# Altium schematic symbol library YaSIf.SCHLIB: 30 symbols
Pins are listed as number, name and electrical type; pins without a type are passive.

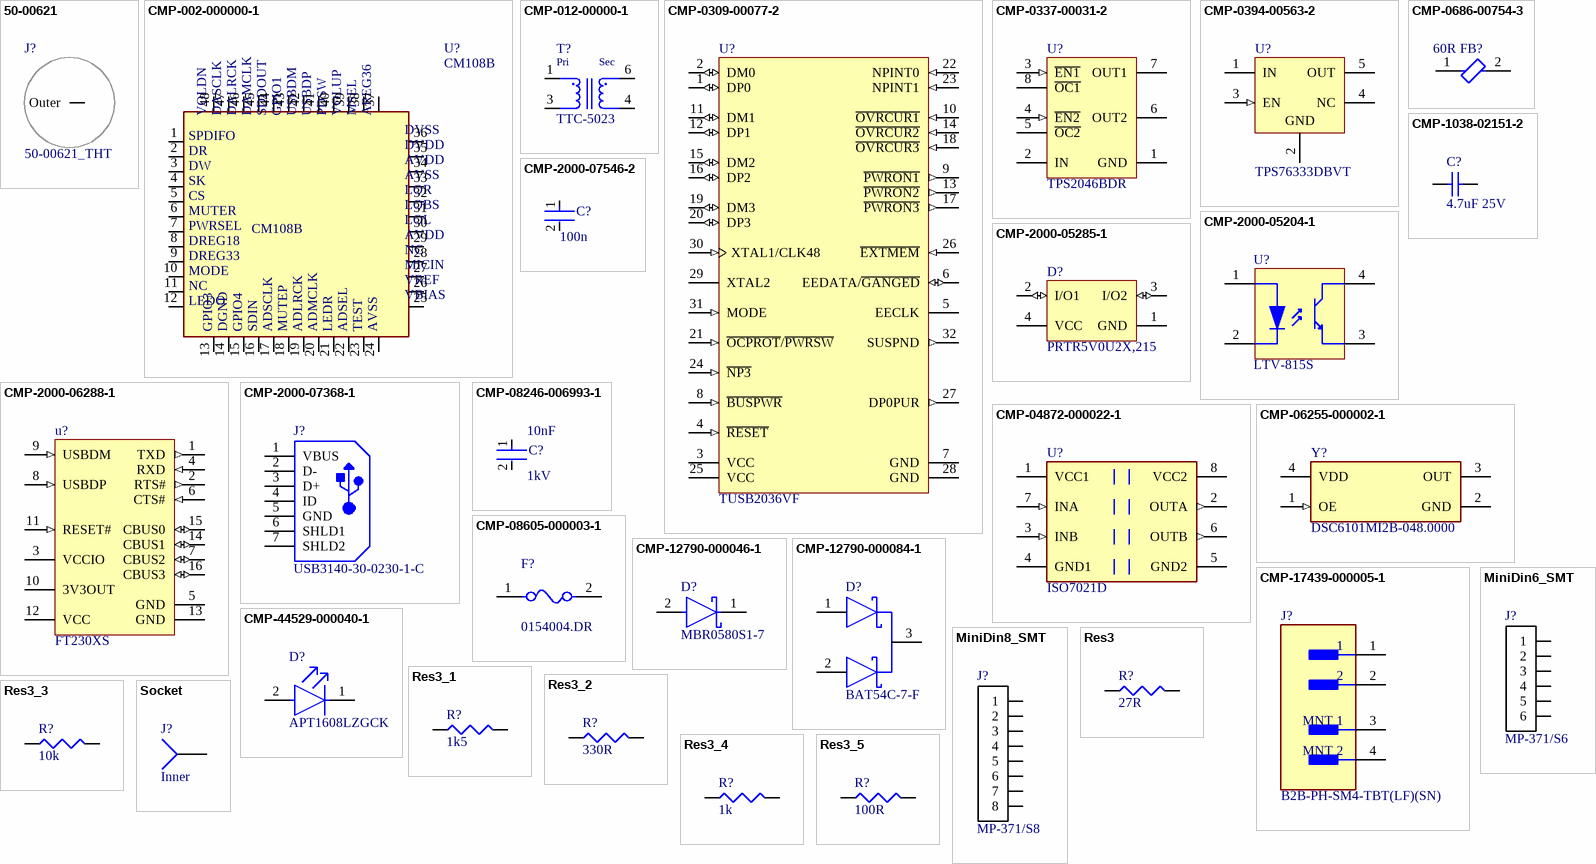
[diagram p0: symbols 50-00621 to Socket]

## 50-00621
designator J?, comment 50-00621_THT
Tensility Connector, dc plug, 4.0x1.7x21.3 mm, dual solder tabs, spring contacts, nickel plated, 105 °C
footprint 50-00621_THT (Connector, dc plug, 4.0x1.7x21.3 mm, mounted as THT)
pins: 1 Outer

## CMP-002-000000-1
designator U?, comment CM108B
USB Audio Codec improved on CM; MF: Cmedia; Check_prices: https://www.snapeda.com/parts/CM108B/Cmedia/view-part/424266/?ref=eda; Pin Count: 48; Source: CM108B.SchLib; Design Item ID: CM108B; Package: None; Price: None; Value: *; SnapEDA_Link: https://www.snapeda.com/parts/CM108B/Cmedia/view-part/424266/?ref=snap; MP: CM108B; Availability: Unavailable; Component Type: Standard; Component Type: Interface
footprint TQFP48
pins: 1 (io), 2 (io), 3 (io), 4 (io), 5 (io), 6 (io), 7 (io), 8 (io), 9 (io), 10 (io), 11 (io), 12 (io), 13 (io), 14 (io), 15 (io), 16 (io), 17 (io), 18 (io), 19 (io), 20 (io), 21 (io), 22 (io), 23 (io), 24 (io), 25 (io), 26 (io), 27 (io), 28 (io), 29 (io), 30 (io), 31 (io), 32 (io), 33 (io), 34 (io), 35 (io), 36 (io), 37 (io), 38 (io), 39 (io), 40 (io), 41 (io), 42 (io), 43 (io), 44 (io), 45 (io), 46 (io), 47 (io), 48 (io)
text: VOLDN; DASCLK; DALRCK; DAMCLK; SDDOUT; GPIO1; USBDM; USBDP; PDSW; VOLUP; MSEL; AREG36; SPDIFO; DVSS; DR; DVDD; DW; AVDD; SK; AVSS; CS; LOR; MUTER; LOBS; PWRSEL; LOL; DREG18; DREG33; NC; MODE; MICIN; VREF; LEDO; VBIAS; GPIO3; DGND; GPIO4; SDIN; ADSCLK; MUTEP; ADLRCK; ADMCLK; LEDR; ADSEL; TEST

## CMP-012-00000-1
designator T?, comment TTC-5023
600 Impedance Primary Ohms 600 Impedance Secondary Ohms 1:1 Audio Transformer 200Hz ~ 4kHz Surface Mount; MF: Tamura; MP: TTC-5023; SnapEDA_Link: https://www.snapeda.com/parts/TTC-5023/Tamura/view-part/2878352/?ref=snap; Source: SnapEDAsch.SchLib; Design Item ID: TTC-5023; Pins: 4; Availability: Unavailable; Component Type: Standard; Price: None; Case/Package: Tamura; Value: *; Component Type: Transformers
footprint TRANSFORMER_TTC-5023
pins: 1, 3, 4, 6
text: Pri; Sec

## CMP-0309-00077-2
designator U?, comment TUSB2036VF
2 / 3-Port Hub for USB with Optional Serial EEPROM Interface, 3.3V, 0 to 70 degC, 32-Pin LQFP (VF), Green (RoHS & no Sb/Br); Manufacturer: Texas Instruments; USB Speed: Full; Supply Voltage(s)(V): 3.3; SubFamily: USB Hub Controller; USB Full Speed: True; ComponentLink2Description: Package Specification; Eco-Plan: Green (RoHS & no Sb/Br); ComponentLink1Description: Datasheet; ComponentLink2URL: http://www.ti.com/litv/pdf/mtqf002b; PackageVersion: revD, Apr-2000; PartNumber: TUSB2036VF; PackageReference: VF0032A; ComponentLink1URL: http://www.ti.com/general/docs/lit/getliterature.tsp?genericPartNumber=TUSB2036&fileType=pdf; Mounting Technology: Surface Mount; Integrated MCU Architecture: N/A; PackageDescription: 32-Pin Plastic Quad Flatpack, 7 x 7 mm Body, 0.8 mm Pitch; DatasheetVersion: SLLS372E; Manufacturer Part Number: TUSB2036VF
footprint VF0032A_N (QFP, 32-Leads, Body 7x7mm, Pitch 0.8mm, IPC Medium Density)
footprint VF0032A_L (QFP, 32-Leads, Body 7x7mm, Pitch 0.8mm, IPC High Density)
footprint VF0032A_M (QFP, 32-Leads, Body 7x7mm, Pitch 0.8mm, IPC Low Density)
pins: 1 DP0 (io) "Root port USB differential data plus. DP0 paired with DM0 constitutes the upstream USB port.", 2 DM0 (io) "Root port USB differential data minus. DM0 paired with DP0 constitutes the upstream USB port.", 3 VCC (power) "3.3-V supply voltage", 4 ~{RESET} (in) "R\E\S\E\T\ is an active low TTL input with hysteresis and must be asserted at power up. When R\E\S\E\T\ is asserted, all logic is initialized. Generally, a reset with a pulse width between 100 us and 1 ms is recommended (See Datasheet)", 5 EECLK (hiz) "EEPROM serial clock. When EXTMEM is high, the EEPROM interface is disabled. The EECLK terminal is disabled and must be left floating (unconnected). When EXTMEM is low, EECLK acts as a 3-state serial clock output to the (See Datasheet)", 6 EEDATA/~{GANGED} (io) "EEPROM serial data/power-management mode indicator. When E\X\T\M\E\M\ is high, EEDATA/G\A\N\G\E\D\ selects between ganged or per-port power overcurrent detection for the downstream ports. When E\X\T\M\E\M\ is (See Datasheet)", 7 GND (power) "GND terminals must be tied to ground for proper operation", 8 ~{BUSPWR} (in) "Power source indicator. B\U\S\P\W\R\ is an active-low input that indicates whether the downstream ports source their power from the USB cable or a local power supply. For the bus-power mode, this terminal must be pulled low, (See Datasheet)", 9 ~{PWRON1} (out) "Power-on/-off control signals. P\W\R\O\N\1\-P\W\R\O\N\3\ are active low, push-pull outputs that enables the external power switch device. Push-pull outputs eliminate the pullup resistors which open-drain outputs require. (See Datasheet)", 10 ~{OVRCUR1} (in) "Overcurrent input. O\V\R\C\U\R\1\ - O\V\R\C\U\R\3\ are active low. For per-port overcurrent detection, one overcurrent input is available for each of the three downstream ports. In the ganged mode, any O\V\R\C\U\R\ input may (See Datasheet)", 11 DM1 (io) "USB differential data minus. DM1-DM3 paired with DP1-DP3 support up to four downstream USB ports.", 12 DP1 (io) "USB differential data plus. DP1-DP3 paired with DM1-DM3 support up to four downstream USB ports.", 13 ~{PWRON2} (out) "Power-on/-off control signals. P\W\R\O\N\1\-P\W\R\O\N\3\ are active low, push-pull outputs that enables the external power switch device. Push-pull outputs eliminate the pullup resistors which open-drain outputs require. (See Datasheet)", 14 ~{OVRCUR2} (in) "Overcurrent input. O\V\R\C\U\R\1\ - O\V\R\C\U\R\3\ are active low. For per-port overcurrent detection, one overcurrent input is available for each of the three downstream ports. In the ganged mode, any O\V\R\C\U\R\ input may (See Datasheet)", 15 DM2 (io) "USB differential data minus. DM1-DM3 paired with DP1-DP3 support up to four downstream USB ports.", 16 DP2 (io) "USB differential data plus. DP1-DP3 paired with DM1-DM3 support up to four downstream USB ports.", 17 ~{PWRON3} (out) "Power-on/-off control signals. P\W\R\O\N\1\-P\W\R\O\N\3\ are active low, push-pull outputs that enables the external power switch device. Push-pull outputs eliminate the pullup resistors which open-drain outputs require. (See Datasheet)", 18 ~{OVRCUR3} (in) "Overcurrent input. O\V\R\C\U\R\1\ - O\V\R\C\U\R\3\ are active low. For per-port overcurrent detection, one overcurrent input is available for each of the three downstream ports. In the ganged mode, any O\V\R\C\U\R\ input may (See Datasheet)", 19 DM3 (io) "USB differential data minus. DM1-DM3 paired with DP1-DP3 support up to four downstream USB ports.", 20 DP3 (io) "USB differential data plus. DP1-DP3 paired with DM1-DM3 support up to four downstream USB ports.", 21 ~{OCPROT}/~{PWRSW} (in) "Overcurrent Protection for bus-powered hub (active low). /Power Switching for self-powered hub (active low). The terminal has a different meaning for the bus or self-powered hub. If the terminal is logic high the internal (See Datasheet)", 22 NPINT0 (in) "Number of ports internal to hub system, which are permanently attached (see Table 1).", 23 NPINT1 (in) "Number of ports internal to hub system, which are permanently attached (see Table 1).", 24 ~{NP3} (in) "Number of ports is 3. Active low input. A logic 0 configures the system to use 3 ports. A logic 1 configures the system to use 2 ports.", 25 VCC (power) "3.3-V supply voltage", 26 ~{EXTMEM} (in) "When E\X\T\M\E\M\ is high, the serial EEPROM interface of the device is disabled. When E\X\T\M\E\M\ is low, terminals 5 and 6 are configured as the clock and data terminals of the serial EEPROM interface, respectively.", 27 DP0PUR (out) "Pullup resistor connection. When a system reset happens (R\E\S\E\T\ being driven to low, but not USB reset) or any logic level change on B\U\S\P\W\R\ terminal, DP0PUR output is inactive (floating) until the internal counter (See Datasheet)", 28 GND (power) "GND terminals must be tied to ground for proper operation.", 29 XTAL2 "Crystal 2. XTAL2 is a 6-MHz crystal output. This terminal must be left open when using an oscillator", 30 XTAL1/CLK48 (in) "Crystal 1/48-MHz clock input. When MODE is low, XTAL1/CLK48 is a 6-MHz crystal input with 50% duty cycle. An internal APLL generates the 48-MHz and 12-MHz clocks used internally by the ASIC logic. When MODE is (See Datasheet)", 31 MODE (in) "Mode select. When MODE is low, the APLL output clock is selected as the clock source to drive the internal core of the device and 6-MHz crystal or oscillator can be used. When MODE is high, the clock on XTAL1/CLK48 is (See Datasheet)", 32 SUSPND (out) "Suspend status. SUSPND is an active high output available for external logic power-down operations. During the suspend mode, SUSPND is high. SUSPND is low for normal operation."

## CMP-0337-00031-2
designator U?, comment TPS2046BDR
Current-Limited Power-Distribution Switch, 0.5 A Current Limit, -40 to 85 degC, 8-pin SOIC (D), Green (RoHS & no Sb/Br); Manufacturer: Texas Instruments; Continuous Current(Max)(A): 0.25; UL Listed: TRUE; Vin(Min)(V): 2.7; Rating: Catalog; Current Limit(A): 0.5; rDS(on) per FET(Typ)(mOhms): 70; Number of Switches: 2; Vin(Max)(V): 5.5; Enable: Active Low; ComponentLink1Description: Datasheet; Code_JEDEC: MS-012AA; PackageDescription: 8-Pin Plastic Small Outline Integrated Circuit, 4.9 x 3.9 mm, Pitch 1.27 mm Pitch; PackageReference: D0008A; DatasheetVersion: SLVS532C; NEMKO: TRUE; Mounting Technology: Surface Mount; ComponentLink1URL: http://www.ti.com/general/docs/lit/getliterature.tsp?genericPartNumber=TPS2046B&fileType=pdf; PackageVersion: revM, Jun-2011; PartNumber: TPS2046BDR; Eco-Plan: Green (RoHS & no Sb/Br); Manufacturer Part Number: TPS2046BDR
footprint D0008A_L (SOIC, 8-Leads, Body 5x4mm, Pitch 1.27mm, IPC High Density)
footprint D0008A_N (SOIC, 8-Leads, Body 5x4mm, Pitch 1.27mm, IPC Medium Density)
footprint D0008A_M (SOIC, 8-Leads, Body 5x4mm, Pitch 1.27mm, IPC Low Density)
pins: 1 GND (power) "Ground", 2 IN (power) "Input voltage", 3 ~{EN1} (in) "Enable input, logic low turns on power switch IN-OUT1", 4 ~{EN2} (in) "Enable input, logic low turns on power switch IN-OUT2", 5 ~{OC2} (oc) "Overcurrent, open-drain output, active low, IN-OUT2", 6 OUT2 (power) "Power-switch output, IN-OUT2", 7 OUT1 (power) "Power-switch output, IN-OUT1", 8 ~{OC1} (oc) "Overcurrent, open-drain output, active low, IN-OUT1"

## CMP-0394-00563-2
designator U?, comment TPS76333DBVT
Single Output LDO, 150 mA, Fixed 3.3 V Output, 2.7 to 10 V Input, with Low IQ, 5-pin SOT-23 (DBV), -40 to 125 degC, Green (RoHS & no Sb/Br); Manufacturer: Texas Instruments; Vin(Max)(V): 10; Iq(Typ)(mA): 0.08; Accuracy(%): 3; Vout Adj(Max)(V): 3.3; Iout(Max)(A): 0.15; Vin(Min)(V): 2.7; Vdo(Typ)(mV): 300; SubFamily: Single Channel LDO; ComponentLink2URL: http://www.ti.com/general/docs/lit/getliterature.tsp?genericPartNumber=TPS76333&fileType=pdf; ComponentLink2Description: Datasheet; Code_JEDEC: MO-178; PartNumber: TPS76333DBVT; Vout Adj(Min)(V): 3.3; PackageDescription: 5-Pin Plastic Small Outline, Body 1.60 Ãƒâ€” 2.90 mm, Pitch 0.95 mm; Eco-Plan: Green (RoHS & no Sb/Br); PackageReference: DBV0005A; Mounting Technology: Surface Mount; ComponentLink3Description: Package Specification; DatasheetVersion: SLVS181H; ComponentLink3URL: http://www.ti.com/litv/pdf/mpds018i; PackageVersion: 4073253-4/K; Fixed Output Options(V): 3.3; ComponentLink1URL: http://www.ti.com/; ComponentLink1Description: Manufacturer URL; Manufacturer Part Number: TPS76333DBVT
footprint DBV0005A_N (SOT23, 5-Leads, Body 3.05x1.75mm, Pitch 0.95mm, IPC Medium Density)
footprint DBV0005A_L (SOT23, 5-Leads, Body 3.05x1.75mm, Pitch 0.95mm, IPC High Density)
footprint DBV0005A_M (SOT23, 5-Leads, Body 3.05x1.75mm, Pitch 0.95mm, IPC Low Density)
pins: 1 IN (power) "Input supply voltage", 2 GND (power) "Ground", 3 EN (in) "Enable input", 4 NC "No connected", 5 OUT (power) "Regulated output voltage"

## CMP-0686-00754-3
designator FB?, comment Impedance: 60R  (hidden comment: BLM41PG600SN1L)
Ferrite Bead, 1806, 60Ω @ 100MHz, 0.009Ω, 6A; Manufacturer Series: BLM41P; Manufacturer: Murata; Tolerance: 25%; Number of Lines: 1; Shielding: Unshielded; DC Resistance-Max: 9mR; Test Frequency: 100MHz; Case Code (Imperial): 1806; Height: 1.6mm; REACH SVHC: No SVHC; Radiation Hardening: No; Core Material: Ferrite; Case Code (Metric): 4516; Frequency: 100MHz; Number of Circuits: 1; Termination: SMD/SMT; Contact Plating: Tin; Width: 1.6mm; Number of Pins: 2; Package Quantity: 1; Series: BLM41P; Max DC Current: 6A; Inductor Type: FERRITE BEAD; Case/Package: 1806; DC Current: 6A; Number of Functions: 1; Length: 4.5mm; DC Resistance (DCR): 9mR; Terminal Finish: Tin; Military Standard: Not; Min Operating Temperature: -55°C; Depth: 1.6mm; Lead Free: Lead Free; Current: 6A; RoHS Compliant: Yes; Max Current Rating: 6A; Current Rating: 6A; Max Operating Temperature: 125°C; Packaging: Tape and Reel; Material: Ferrite; Manufacturer Part Number: BLM41PG600SN1L
footprint FP-BLM41-0_2-IPC_B
footprint FP-BLM41-0_2-IPC_C
footprint FP-BLM41-0_2-IPC_A
footprint FP-BLM41-0_2-MFG
pins: 1, 2

## CMP-1038-02151-2
designator C?, comment 4.7uF 25V
CAP 4.7uF 25V ±10% 1210 (3225 Metric) Thickness 2.2mm SMD; Manufacturer: KEMET; Manufacturer Part Number: C1210C475K3RACTU; Manufacturer Part Number: C1210C475K3RAC; Manufacturer Part Number: C1210C475K3RACTM; Case-Metric: 3225; Case-EIA: 1210; Tolerance: Â±10%; Value: 4.7uF; Technology: SMT; Max Thickness: 2.2 mm; Rated Voltage: 25 V
footprint CAPC1210(3225)220_M (Chip Capacitor, Body 3.2x2.5mm, Height 2.2mm, IPC Low Density)
footprint CAPC1210(3225)220_L (Chip Capacitor, Body 3.2x2.5mm, Height 2.2mm, IPC High Density)
footprint CAPC1210(3225)220_N (Chip Capacitor, Body 3.2x2.5mm, Height 2.2mm, IPC Medium Density)
pins: 1, 2
1 alternate drawing of the same symbol

## CMP-2000-05204-1
designator U?, comment LTV-815S
Photocoupler - Phototransistor Output, 35 V VCEO, -50 to 110 degC, 4-Pin SMD, RoHS, Tape and Reel; Manufacturer: Lite-On; Manufacturer: Vishay Lite-On; Manufacturer Part Number: LTV-817S; Collector Current (DC): 0.05A; Collector-Emitter Voltage: 35V; Fall Time: 18000ns; Reverse Breakdown Voltage: 6V; Forward Voltage: 1.4V; Output Type: DC; Forward Current: 50mA; Isolation Voltage: 5000V; Number of Elements: 1; Rad Hardened: No; Power Dissipation: 0.2W; Current Transfer Ratio: 600%; DELETED: Compliant; Collector-Emitter Saturation Voltage: 0.2V; Package Type: PDIPSMD; Collector Current (DC) (Max): 0.05A; Manufacturer URL: http://www.us.liteon.com/; Rise Time: 18000ns; Operating Temperature Classification: Commercial; Output Device: Transistor; Input Type: DC; Datasheet Version: Jan-10; Operating Temp Range: -30Cto100C; Mounting: SurfaceMount; Pin Count: 4
footprint LTST-LTV-817S-4_V (SMD, 4-Leads, Body 7x5.1mm, Pitch 2.54mm)
pins: 1 ANODE, 2 CATHODE, 3 EMITTER, 4 COLLECTOR

## CMP-2000-05285-1
designator D?, comment PRTR5V0U2X,215
Ultra Low Capacitance Double Rail-to-Rail ESD Protection Diode, 5.5 V, 1 pF, -40 to 85 degC, 4-Pin SOT143B, RoHS, Tape and Reel; Manufacturer: NXP Semiconductors; Manufacturer Part Number: PRTR5V0U2X215; Capacitance Value: 16pF; Number of Elements: 1; Rad Hardened: No; Reverse Breakdown Voltage: 6V; Working Voltage (Max): 5.5V; Polarity: Uni-Directional; Configuration: Quad; Leakage Current: 0.1uA; Product Height (mm): 1mm; Suppressor Type: DiodeArrays; Product Length (mm): 3mm; Product Depth (mm): 1.4mm; ESD Protection Voltage: 8KV@ContactDisc; Package Type: SOT; Mounting: SurfaceMount; Packaging: TapeandReel; Datasheet Version: Rev. 02, 01/2008; Reverse Stand-off Voltage: 5.5V; Manufacturer URL: http://www.nxp.com/; Operating Temp Range: -40Cto85C; Operating Temperature Classification: Industrial; Working Voltage: 5.5V; Operating Temperature Min Deg. C: -40C; Datasheet URL: https://datasheet.ciiva.com/4479/prtr5v0u2x-102853-4479461.pdf; Leakage Current (Max): 0.1uA; Direction Type: Uni-Directional; Pin Count: 3+Tab; Operating Temperature Max Deg. C: 85C; Mounting Style: SurfaceMount; Package / Case: SOT
footprint NXP-SOT143B-4_V (SOT143, 4-Leads, Body 3x1.4mm)
pins: 1 GND (power) "ground", 2 I/O1 (io) "input/output 1", 3 I/O2 (io) "input/output 2", 4 VCC (power) "supply voltage"

## CMP-2000-06288-1
designator u?, comment FT230XS
USB to Basic UART IC, 2.97 to 5.5 V, -40 to 85 degC, 16-Pin SSOP, RoHS; Manufacturer: FTDI; Data Rate: 3Mbaud; USB Standard: USB2.0; USB Type: Transceiver; No. of Pins: 16Pins; Supply Voltage Max: 5.5V; SVHC: NoSVHC(17-Dec-2015); Supply Voltage Min: 2.97V; MSL: MSL3-168hours; Datasheet Version: Rev. 1.4, 05/2016; Interface Case Style: SSOP; Datasheet URL: http://www.ftdichip.com/Support/Documents/DataSheets/ICs/DS_FT230X.pdf; Packaging: CutTape; Package Description: 16-Pin Shrink Small Outline Package Integrated Circuit, Body 4.9 x 3.9 mm, Pitch 0.635 mm; Operating Temperature Min: -40°C; Mounting Technology: SurfaceMount; Package Reference: SSOP-16; Manufacturer URL: http://www.ftdichip.com/; Product Range: -; Operating Temperature Max: 85°C; No. of Ports: -; Manufacturer Part Number: FT230XS
footprint FTDI-SSOP-16_L (SOP, 16-Leads, Body 5x4mm, Pitch 0.635mm, IPC High Density)
footprint FTDI-SSOP-16_M (SOP, 16-Leads, Body 5x4mm, Pitch 0.635mm, IPC Low Density)
footprint FTDI-SSOP-16_N (SOP, 16-Leads, Body 5x4mm, Pitch 0.635mm, IPC Medium Density)
pins: 1 TXD (out) "Transmit Asynchronous Data Output.", 2 RTS# (out) "Request to Send Control Output / Handshake Signal.", 3 VCCIO (power) "1V8 - 3V3 supply for the IO cells", 4 RXD (in) "Receiving Asynchronous Data Input.", 5 GND (power) "0V Ground input.", 6 CTS# (in) "Clear To Send Control Input / Handshake Signal.", 7 CBUS2 (io) "Configurable CBUS I/O Pin.", 8 USBDP (in) "USB Data Signal Plus.", 9 USBDM (in) "USB Data Signal Minus.", 10 3V3OUT (power) "3V3 output at 50mA. May be used to power VCCIO.", 11 RESET# (in) "Reset input (active low).", 12 VCC (power) "5 V (or 3V3) supply to IC", 13 GND (power) "0V Ground input.", 14 CBUS1 (io) "Configurable CBUS I/O Pin.", 15 CBUS0 (io) "Configurable CBUS I/O Pin.", 16 CBUS3 (io) "Configurable CBUS I/O Pin."

## CMP-2000-07368-1
designator J?, comment USB3140-30-0230-1-C
Micro USB Receptacle, Type B, SMT, Vertical, with Through-Hole Shell Stakes, -30 to 85 degC, 5-Pin SMD, RoHS, Tape and Reel; Manufacturer: Global Connector Technology; Connector Mounting: PCB; SVHC: NoSVHC(19-Dec-2012); No. of Positions: 5; Connector Type: USB2.0MicroB; No. of Rows: 1; Contact Termination: SurfaceMountVertical; Pitch: 0.65mm; Contact Material: Copper; Gender: Receptacle; PartNumber: USB3140; Series: USB3140; Datasheet URL: http://www.farnell.com/datasheets/1913332.pdf; Contact Plating: Gold; Manufacturer URL: http://gct.co/; Package Reference: USB3140; No. of Contacts: 5; Orientation: Vertical; Datasheet Version: Rev. B2, 04/2015; Package Description: 5-Pin Surface Mount Device, Body 7.8 x 4 mm, Pitch 0.65 mm; Mounting Technology: SurfaceMount; Manufacturer Part Number: USB3140-30-0230-1-C
footprint GCT-USB3140_V (USB, Micro B, Body 7.8x4mm, Pitch 0.65mm)
pins: 1 VBUS, 2 D-, 3 D+, 4 ID, 5 GND, 6 SHLD1, 7 SHLD2

## CMP-2000-07546-2
designator C?, comment 100n
Cap Ceramic 100nF 50V X7R 10% Pad SMD 0603 +125°C Automotive T/R; Manufacturer: TDK; Manufacturer Part Number: CGA3E2X7R1H104K080AA; Weight: 7.1E-05oz; Composition: Ceramic; Max Operating Temperature: 125°C; Termination: SMD/SMT; Dielectric: X7R; Length: 1.6mm; Package Quantity: 1; REACH SVHC: No SVHC; Lead Free: Lead Free; Case Code (Metric): 1608; Min Operating Temperature: -55°C; Packaging: Tape and Reel; Tolerance: 10%; Voltage Rating: 50V; Case Code (Imperial): 0603; Capacitance: 100nF; Case/Package: 0603; Voltage Rating (DC): 50V; Depth: 0.8mm; Radiation Hardening: No; Ratings: AEC-Q200; Mount: Surface Mount; Voltage: 50V; Thickness: 0.035inch; Width: 0.8mm; Height: 0.8mm
footprint FP-CGA3E-0_3-0_1-IPC_A
footprint FP-CGA3E-0_3-0_1-IPC_C
footprint FP-CGA3E-0_3-0_1-IPC_B
footprint FP-CGA3E-0_3-0_1-MFG
pins: 1, 2

## CMP-04872-000022-1
designator U?, comment ISO7021D
DGTL ISO 3000VRMS 2CH GP 8SOIC; Manufacturer: Texas Instruments; Manufacturer Part Number: ISO7021D
footprint FP-D0008A-IPC_B
footprint FP-D0008A-MFG
footprint FP-D0008A-IPC_A
footprint FP-D0008A-IPC_C
pins: 1 VCC1 (power), 2 OUTA (out), 3 INB (in), 4 GND1 (power), 5 GND2 (power), 6 OUTB (out), 7 INA (in), 8 VCC2 (power)

## CMP-06255-000002-1
designator Y?, comment DSC6101MI2B-048.0000
MEMS OSC XO 48.0000MHZ CMOS SMD; Manufacturer Part Number: DSC6101MI2A-024.0000T; Manufacturer: Microchip; Max Supply Voltage: 3.63V; Standoff Height: 0mm; Stability: 25ppm; Frequency: 24MHz; Max Junction Temp: +150°C; Min Supply Voltage: 1.71V; Ambient Temperature Range High: +85°C; Series: DSC61; Device Class L3: Oscillators; Package: C04-C04-1200; ComponentLink2URL: http://ww1.microchip.com/downloads/en/DeviceDoc/20005624B.pdf; Automotive: No; Ambient Temperature Range Low: -40°C; Category: Crys; ComponentLink2Description: Datasheet; Device Class L1: Passive Components; Temperature Range High: +150°C; Digikey Description: MEMS OSC XO 24.0000MHZ CMOS SMD; Mouser Description: Ultra-Low Power, Mems Oscillator, 2016, -40 To 85, 25Ppm4 Vflga 2.0X1.6X0.89Mm T/R; Height: 0.89mm; Octopart: https://octopart.com/dsc6101mi2a-024.0000t-microchip-75516980; Footprint Url: http://ww1.microchip.com/downloads/en/DeviceDoc/04L_VFLGA_2-0x1-6x0-89_ASA_C04-01200b.pdf; Temperature: to +150°C; Device Class L2: Crystals / Oscillators; RoHS: TRUE; Lead Free: Yes
footprint FP-C04-C04-1200-0
pins: 1 OE (in), 2 GND (power), 3 OUT, 4 VDD (power)

## CMP-08246-006993-1
designator C?, comment Voltage Rating (DC): 1kV  Capacitance: 10nF  (hidden comment: C4532X7R3A103K200KA)
Multilayer Ceramic Capacitors 10nF ±10% 1000V X7R SMD 1812; Manufacturer: TDK; Min Operating Temperature: -55°C; Number of Pins: 2; RoHS Compliant: Yes; Thickness: 0.087inch; Mount: Surface Mount; Voltage Rating: 1kV; Package Quantity: 1; Packaging: Tape and Reel; Width: 0.126inch; Lead Free: Lead Free; Dielectric: X7R; Weight: 0.000952oz; REACH SVHC: No SVHC; Case Code (Imperial): 1812; Max Operating Temperature: 125°C; Resistor Type: Ceramic; Case/Package: 1812; Depth: 3.2mm; Case Code (Metric): 4532; Tolerance: 10%; Series: C; Termination: SMD/SMT; Length: 4.5mm; Manufacturer Part Number: C4532X7R3A103K200KA
footprint FP-C4532-200-0_4-IPC_B
footprint FP-C4532-200-0_4-IPC_C
footprint FP-C4532-200-0_4-MFG
footprint FP-C4532-200-0_4-IPC_A
pins: 1, 2

## CMP-08605-000003-1
designator F?, comment 0154004.DR
FUSE BRD MNT 4A 125VAC/VDC 2SMD; Manufacturer: Littelfuse; Fuse Blow Speed: Fast; Max Fuse Ac Voltage: 125V; Lead Free: Yes; Device Class L3: unset; Manufacturer Part Number: 0154004.DR; Device Class L2: Fuses; Package: 0154; ComponentLink2Description: Datasheet; Temperature Range Low: -55°C; Temperature Range High: +125°C; Device Class L1: Circuit Protection; Height: 3.81mm; Temperature: -55°C to +125°C; Mouser Description: Surface Mount Fuses Fuseblock w/ fuse 4A OMNI BLOK 154; Automotive: No; Digikey Description: FUSE BRD MNT 4A 125VAC/VDC 2SMD; RoHS: TRUE; Category: Fuse; Fuse Current: 4A; Max Fuse Dc Voltage: 125V; ComponentLink2URL: https://www.littelfuse.com/~/media/electronics/datasheets/fuses/littelfuse_fuse_154_154t_154l_154tl_datasheet.pdf.pdf; Octopart: https://octopart.com/0154004.dr-littelfuse-565861
footprint FP-0154-MFG
pins: 1, 2

## CMP-12790-000046-1
designator D?, comment MBR0580S1-7
DIODE SCHOTTKY 80V 500MA SOD123; Manufacturer: Diodes; Standoff Height: 0mm; Max Surge Forward Current: 14A; Peak Reverse Current: 0.5uA; Capacitance: 15pF; Forward Current: 0.5A; Max Junction Temp: +175°C; Value: 15pF; RoHS: TRUE; Temperature Range High: +175°C; Octopart: https://octopart.com/mbr0580s1-7-diodes+inc.-53081572; Max Repetitive Reverse Voltage: 80V; Height: 1.45mm; Digikey Description: DIODE SCHOTTKY 80V 500MA SOD123; Mouser Description: Schottky Diodes & Rectifiers SBR 0.5A 80Vrrm 14A Ifsm 80Vrrm 15pF; Device Class L2: Diodes; Device Class L1: Discrete Semiconductors; Automotive: No; Reverse Voltage: 80V; Category: Diode; Lead Free: Yes; Footprint Url: https://www.diodes.com/assets/Package-Files/SOD123.pdf; ComponentLink2Description: Datasheet; ComponentLink2URL: https://www.diodes.com/assets/Datasheets/MBR0580S1.pdf; Device Class L3: Schottky Diodes; Manufacturer Part Number: MBR0580S1-7; Package: SOD123; Temperature Range Low: -55°C; Temperature: -55°C to +175°C
footprint FP-SOD123-MFG
footprint FP-SOD123-IPC_C
footprint FP-SOD123-IPC_B
footprint FP-SOD123-IPC_A
pins: 1 C, 2 A

## CMP-12790-000084-1
designator D?, comment BAT54C-7-F
DIODE ARRAY SCHOTTKY 30V SOT23-3; Manufacturer: Diodes; Max Reverse Current: 2uA; Power Dissipation: 200mW; Average Rectified Current: 200mA; Capacitance: 10pF; Peak Non-Repetitive Surge Current: 600mA; Forward Voltage: 800mV; Reverse Recovery Time: 5ns; Element Configuration: Common Cathode; Max Operating Temperature: 150°C; Max Reverse Voltage (DC): 30V; Power Rating: 200mW; Termination: SMD/SMT; REACH SVHC: No SVHC; Voltage Rating (DC): 30V; Series: -; Current Rating: 200mA; RoHS Compliant: Yes; Max Power Dissipation: 200mW; Case/Package: SOT-23; Max Repetitive Reverse Voltage (Vrrm): 30V; Width: 1.3mm; Min Operating Temperature: -65°C; Lead Free: Lead Free; Forward Current: 200mA; Number of Pins: 3; Contact Plating: Tin; Package Quantity: 3000; Length: 2.9mm; Radiation Hardening: No; Max Forward Surge Current (Ifsm): 600mA; Height: 1mm; Packaging: Tape and Reel; Mount: Surface Mount; Weight: 0.000282oz; Manufacturer Part Number: BAT54C-7-F
footprint FP-SOT23-IPC_B
footprint FP-SOT23-IPC_A
footprint FP-SOT23-IPC_C
footprint FP-SOT23-MFG
pins: 1 1 ANODE, 2 2 ANODE, 3 COMMON CATHODE

## CMP-17439-000005-1
designator J?, comment B2B-PH-SM4-TBT(LF)(SN)
CONN HEADER SMD 2POS 2MM; Manufacturer: JST; Current Rating: 2A; Conn Gender: Male; Voltage Rating: 100V; Conn Orientation: Vertical; Number Of Contacts: 2; Octopart: https://octopart.com/b2b-ph-sm4-tbt%28lf%29%28sn%29-jst-7877930; Number Of Rows: 1; Device Class L2: Headers and Wire Housings; RoHS: TRUE; Contact Material: Tin,Copper; Height: 6.65mm; Temperature: -25°C to +85°C; Temperature Range Low: -25°C; ComponentLink2Description: Datasheet; Manufacturer Part Number: B2B-PH-SM4-TBT(LF)(SN); ComponentLink2URL: http://www.jst-mfg.com/product/pdf/eng/ePH.pdf; Automotive: No; Pitch: 2mm; Lead Free: Yes; Device Class L3: unset; Category: Conn; Digikey Description: CONN HEADER SMD 2POS 2MM; Temperature Range High: +85°C; Package: 0; Device Class L1: Connectors
footprint FP-B2B-PH-SM4-TBT_LF_SN-MFG
pins: 1, 2, 3 MNT 1, 4 MNT 2

## CMP-44529-000040-1
designator D?, comment APT1608LZGCK
LED GREEN CLEAR 2SMD; Manufacturer: Kingbright; Dominant Wavelength: 525nm; Forward Voltage: 2.65V; Luminous Intensity: 50mcd; Test Current: 2mA; Viewing Angle: 120°; Lens Color: Colorless; Width: 0.8mm; Mount: Surface Mount; Lens Transparency: Clear; Length: 1.6mm; Packaging: Cut Tape; Case Code (Metric): 1608; Height: 0.75mm; Case/Package: 0603; Case Code (Imperial): 0603; Color: Green; Manufacturer Part Number: APT1608LZGCK
footprint FP-APT1608LZGCK-MFG
pins: 1 C, 2 A

## MiniDin6_SMT
designator J?, comment MP-371/S6
Miniature circular connectors MP-371/S6
footprint MiniDIN6_TopSolder_Lumberg (Inner part of a lumberg MP-371 connector soldered directly on PCB)
pins: 1, 2, 3, 4, 5, 6

## MiniDin8_SMT
designator J?, comment MP-371/S8
Miniature circular connectors MP-371/S8
footprint MiniDIN8_TopSolder_Lumberg (Inner part of a lumberg MP-371 connector soldered directly on PCB)
pins: 1, 2, 3, 4, 5, 6, 7, 8

## Res3
designator R?, comment 27R
Resistor; Published: 8-Jun-2000; LatestRevisionDate: 29-May-2009; LatestRevisionNote: IPC-7351 Footprint Added.; PackageReference: J1-0603; Publisher: Altium Limited; PackageDescription: Chip Resistor; Value: 27R
footprint J1-0603 (Chip Resistor, Body 1.6x0.8mm, IPC High Density)
footprint 14-1210 (Chip Resistor, Body 3.2x2.5mm, IPC High Density)
footprint 12Z-2010 (Chip Resistor, Body 5.0x2.5mm, IPC High Density)
footprint RESC6332 (Chip Resistor, Body 6.3x3.2mm, IPC High Density)
simulation model RESISTOR (Resistor)
signal-integrity model Res
pins: 1, 2

## Res3_1
designator R?, comment 1k5
Resistor; Published: 8-Jun-2000; LatestRevisionDate: 29-May-2009; LatestRevisionNote: IPC-7351 Footprint Added.; PackageReference: J1-0603; Publisher: Altium Limited; PackageDescription: Chip Resistor; Value: 1k5
footprint J1-0603 (Chip Resistor, Body 1.6x0.8mm, IPC High Density)
footprint 14-1210 (Chip Resistor, Body 3.2x2.5mm, IPC High Density)
footprint 12Z-2010 (Chip Resistor, Body 5.0x2.5mm, IPC High Density)
footprint RESC6332 (Chip Resistor, Body 6.3x3.2mm, IPC High Density)
simulation model RESISTOR (Resistor)
signal-integrity model Res
pins: 1, 2

## Res3_2
designator R?, comment 330R
Resistor; Published: 8-Jun-2000; LatestRevisionDate: 29-May-2009; LatestRevisionNote: IPC-7351 Footprint Added.; PackageReference: J1-0603; Publisher: Altium Limited; PackageDescription: Chip Resistor; Value: 330R
footprint J1-0603 (Chip Resistor, Body 1.6x0.8mm, IPC High Density)
footprint 14-1210 (Chip Resistor, Body 3.2x2.5mm, IPC High Density)
footprint 12Z-2010 (Chip Resistor, Body 5.0x2.5mm, IPC High Density)
footprint RESC6332 (Chip Resistor, Body 6.3x3.2mm, IPC High Density)
simulation model RESISTOR (Resistor)
signal-integrity model Res
pins: 1, 2

## Res3_3
designator R?, comment 10k
Resistor; Published: 8-Jun-2000; LatestRevisionDate: 29-May-2009; LatestRevisionNote: IPC-7351 Footprint Added.; PackageReference: J1-0603; Publisher: Altium Limited; PackageDescription: Chip Resistor; Value: 10k
footprint J1-0603 (Chip Resistor, Body 1.6x0.8mm, IPC High Density)
footprint 14-1210 (Chip Resistor, Body 3.2x2.5mm, IPC High Density)
footprint 12Z-2010 (Chip Resistor, Body 5.0x2.5mm, IPC High Density)
footprint RESC6332 (Chip Resistor, Body 6.3x3.2mm, IPC High Density)
simulation model RESISTOR (Resistor)
signal-integrity model Res
pins: 1, 2

## Res3_4
designator R?, comment 1k
Resistor; Published: 8-Jun-2000; LatestRevisionDate: 29-May-2009; LatestRevisionNote: IPC-7351 Footprint Added.; PackageReference: J1-0603; Publisher: Altium Limited; PackageDescription: Chip Resistor; Value: 1k
footprint J1-0603 (Chip Resistor, Body 1.6x0.8mm, IPC High Density)
footprint 14-1210 (Chip Resistor, Body 3.2x2.5mm, IPC High Density)
footprint 12Z-2010 (Chip Resistor, Body 5.0x2.5mm, IPC High Density)
footprint RESC6332 (Chip Resistor, Body 6.3x3.2mm, IPC High Density)
simulation model RESISTOR (Resistor)
signal-integrity model Res
pins: 1, 2

## Res3_5
designator R?, comment 100R
Resistor; Published: 8-Jun-2000; LatestRevisionDate: 29-May-2009; LatestRevisionNote: IPC-7351 Footprint Added.; PackageReference: J1-0603; Publisher: Altium Limited; PackageDescription: Chip Resistor; Value: 100R
footprint J1-0603 (Chip Resistor, Body 1.6x0.8mm, IPC High Density)
footprint 14-1210 (Chip Resistor, Body 3.2x2.5mm, IPC High Density)
footprint 12Z-2010 (Chip Resistor, Body 5.0x2.5mm, IPC High Density)
footprint RESC6332 (Chip Resistor, Body 6.3x3.2mm, IPC High Density)
simulation model RESISTOR (Resistor)
signal-integrity model Res
pins: 1, 2

## Socket
designator J?, comment Inner
Socket; LatestRevisionDate: 17-Jul-2002; LatestRevisionNote: Re-released for DXP Platform.; Publisher: Altium Limited
footprint PIN1 (Connector; Socket)
signal-integrity model Connector
pins: 1